# EAGLE library part TEN5_DUAL (library 000001)
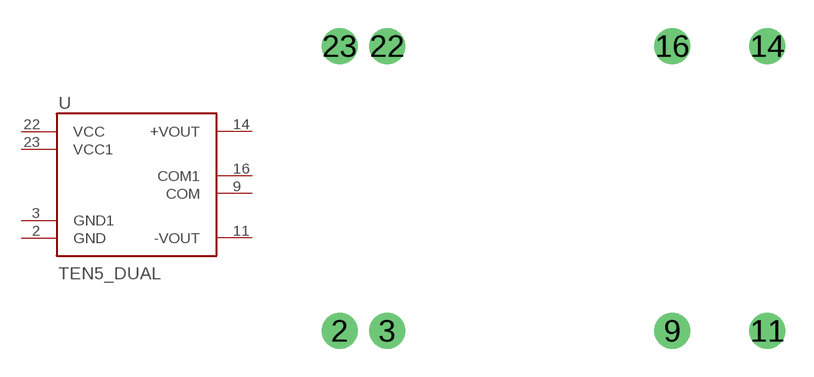
[diagram p104: symbol with the pads of TEN5; footprint TEN5]

Designator prefix -

## TEN5_DUAL  [TEN5]
2  GND  pwr
3  GND1  pwr
9  COM  pwr
11  -VOUT  pwr
14  +VOUT  pwr
16  COM1  pwr
22  VCC  pwr
23  VCC1  pwr

## Footprint TEN5 (pad centres in mm)
drill 0.5 pad 1.93 round: 2 -10.16,-7.62; 3 -7.62,-7.62; 9 7.62,-7.62; 11 12.7,-7.62; 14 12.7,7.62; 16 7.62,7.62; 22 -7.62,7.62; 23 -10.16,7.62